# Altium footprint library PcbLib1.PcbLib: 4 footprints
Each footprint in its own frame and in the unit in brackets; x right, y up, seen from the top. Pads: shape width x height; smd on the part's side, far side on the other; paste and mask are expansions set on the pad; w line width, h text height; cw(c..) or ccw(c..) is an arc to the next point about the centre after c.
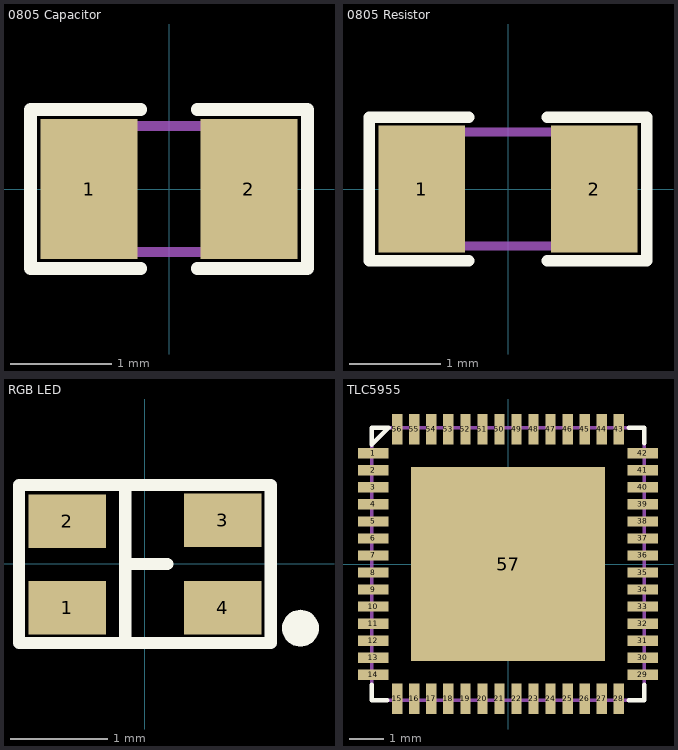
[diagram p0: the footprints below, top view; thin cyan lines are the x and y axes]

## 0805 Capacitor [mm]
pads (2):
  rect 0.96x1.39 smd: 1(-0.79,0) 2(0.79,0)
Top Overlay:
  lines w0.127: -0.279,-0.787 -1.372,-0.787 -1.372,0.787 -0.279,0.787 ; 0.279,-0.787 1.372,-0.787 1.372,0.787 0.279,0.787
Mechanical 13:
  lines w0.1: -1,-0.625 -1,0.625 1,0.625 1,-0.625 -1,-0.625
3D body "CC0805KRX7R9BB103.stp": height 1.35, standoff 0, extent -1,-0.625 1,0.625

## 0805 Resistor [mm]
pads (2):
  rect 0.95x1.4 smd: 1(-0.95,0) 2(0.95,0)
Top Overlay:
  lines w0.127: -0.432,-0.787 -1.524,-0.787 -1.524,0.787 -0.432,0.787 ; 0.432,-0.787 1.524,-0.787 1.524,0.787 0.432,0.787
Mechanical 13:
  lines w0.1: -1,-0.625 1,-0.625 1,0.625 -1,0.625 -1,-0.625
3D body "RC0805JR-071KL.stp": height 0.6, standoff 0, extent -1,-0.625 1,0.625

## RGB LED [mm]
pads (5):
  rect 0.8x0.55 smd: 1(-0.8,-0.45) 2(-0.8,0.439) 3(0.8,0.45) 4(0.8,-0.45)
  round 0.381 on Top Overlay: ""(1.6,-0.66)
Top Overlay:
  lines w0.127: -0.203,-0.787 -0.203,0.813 ; -0.203,0 0.229,0 ; -1.295,-0.813 -1.295,0.813 1.295,0.813 1.295,-0.813 -1.295,-0.813

## TLC5955 [mm]
pads (57):
  rect 0.9x0.3 smd: 1(-3.95,3.25) 2(-3.95,2.75) 3(-3.95,2.25) 4(-3.95,1.75) 5(-3.95,1.25) 6(-3.95,0.75) 7(-3.95,0.25) 8(-3.95,-0.25) 9(-3.95,-0.75) 10(-3.95,-1.25) 11(-3.95,-1.75) 12(-3.95,-2.25) 13(-3.95,-2.75) 14(-3.95,-3.25) 29(3.95,-3.25) 30(3.95,-2.75) 31(3.95,-2.25) 32(3.95,-1.75) 33(3.95,-1.25) 34(3.95,-0.75) 35(3.95,-0.25) 36(3.95,0.25) 37(3.95,0.75) 38(3.95,1.25) 39(3.95,1.75) 40(3.95,2.25) 41(3.95,2.75) 42(3.95,3.25)
  rect 0.3x0.9 smd: 15(-3.25,-3.95) 16(-2.75,-3.95) 17(-2.25,-3.95) 18(-1.75,-3.95) 19(-1.25,-3.95) 20(-0.75,-3.95) 21(-0.25,-3.95) 22(0.25,-3.95) 23(0.75,-3.95) 24(1.25,-3.95) 25(1.75,-3.95) 26(2.25,-3.95) 27(2.75,-3.95) 28(3.25,-3.95) 43(3.25,3.95) 44(2.75,3.95) 45(2.25,3.95) 46(1.75,3.95) 47(1.25,3.95) 48(0.75,3.95) 49(0.25,3.95) 50(-0.25,3.95) 51(-0.75,3.95) 52(-1.25,3.95) 53(-1.75,3.95) 54(-2.25,3.95) 55(-2.75,3.95) 56(-3.25,3.95)
  rect 5.7x5.7 smd: 57(0,0)
Top Overlay:
  lines w0.127: -4,-3.544 -4,-4 -3.544,-4 ; 3.544,-4 4,-4 4,-3.543 ; 3.544,4 4,4 4,3.544 ; -4,3.5 -3.5,4 -4,4 -4,3.5
Mechanical 13:
  lines w0.1: -4,3.5 -3.5,4 ; -4,-4 4,-4 4,4 -4,4 -4,-4
3D body "TLC5955RTQT.stp": height 1, standoff 0, extent -4.05,-4.05 4.05,4.05